# Altium schematic symbol library ELEC-DEM-555Timer.SchLib: 1 symbol
Pins are listed as number, name and electrical type; pins without a type are passive.

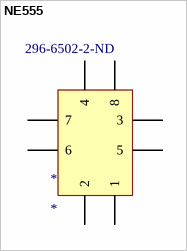
[diagram p0: symbol NE555]

## NE555
designator *  Supplier Part Number 1: 296-6502-2-ND
Supplier 1: Digi-Key
pins: ?1 1, ?2 2, ?3 3, ?4 5, ?5 4, ?6 8, ?7 7, ?8 6